# EAGLE library part AM26LS32 (library dec-con)
Quad Differential Reciever
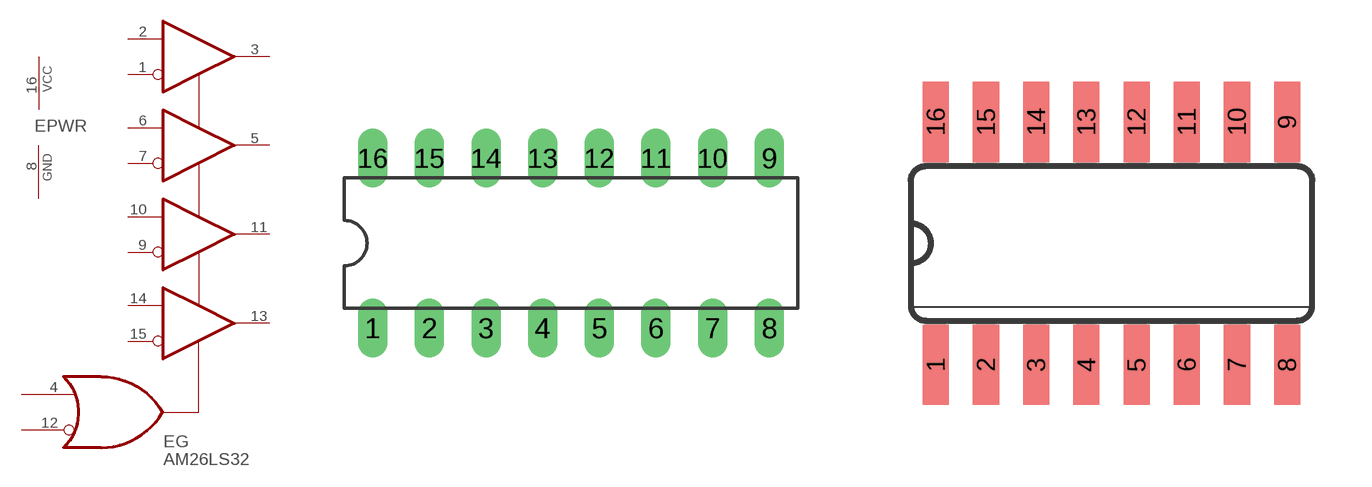
[diagram p94: symbol with the pads of DIL16; footprints DIL16, SO16]

Designator prefix E; gates G=AM26LS32 PWR=PWRN

## AM26LS32N  [DIL16]
1  G:N1  in
2  G:P1  in
3  G:Y1  out
4  G:G  in
5  G:Y2  out
6  G:P2  in
7  G:N2  in
8  PWR:GND  pwr
9  G:N3  in
10  G:P3  in
11  G:Y3  out
12  G:!G  in
13  G:Y4  out
14  G:P4  in
15  G:N4  in
16  PWR:VCC  pwr

## AM26LS32J  [SO16]
Pads as for DIL16

## Footprint DIL16 (pad centres in mm)
Dual In Line Package
drill 0.813 long: 1 -8.89,-3.81; 2 -6.35,-3.81; 3 -3.81,-3.81; 4 -1.27,-3.81; 5 1.27,-3.81; 6 3.81,-3.81; 7 6.35,-3.81; 8 8.89,-3.81; 9 8.89,3.81; 10 6.35,3.81; 11 3.81,3.81; 12 1.27,3.81; 13 -1.27,3.81; 14 -3.81,3.81; 15 -6.35,3.81; 16 -8.89,3.81

## Footprint SO16 (pad centres in mm)
Small Outline package 150 mil
smd 0.66 x 2.032: 1 -4.445,-3.073; 2 -3.175,-3.073; 3 -1.905,-3.073; 4 -0.635,-3.073; 5 0.635,-3.073; 6 1.905,-3.073; 7 3.175,-3.073; 8 4.445,-3.073; 9 4.445,3.073; 10 3.175,3.073; 11 1.905,3.073; 12 0.635,3.073; 13 -0.635,3.073; 14 -1.905,3.073; 15 -3.175,3.073; 16 -4.445,3.073